# EAGLE library part WM-C1602M (library 000001)
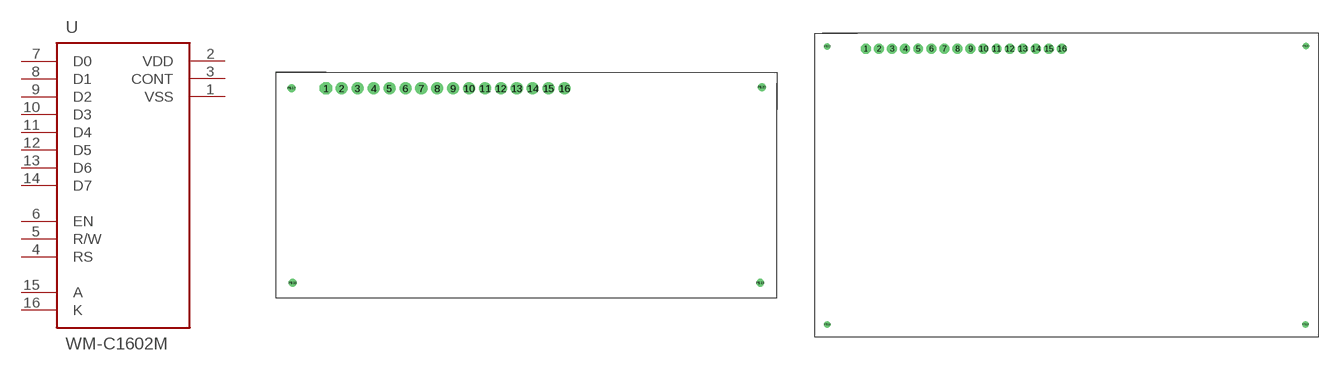
[diagram p64: symbol with the pads of WM-C1602M; footprints WM-C1602M, TM204AAB]

Designator prefix -

## WM-C1602MB  [WM-C1602M]
1  VSS
2  VDD
3  CONT
4  RS
5  R/W
6  EN
7  D0
8  D1
9  D2
10  D3
11  D4
12  D5
13  D6
14  D7
15  A
16  K

## WM-C1602MC  [TM204AAB]
Pads as for WM-C1602M

## Footprint WM-C1602M (pad centres in mm)
drill 0.5 pad 1.93 octagon: 1 0,0
drill 0.5 pad 1.93 round: 2 2.54,0; 3 5.08,0; 4 7.62,0; 5 10.16,0; 6 12.7,0; 7 15.24,0; 8 17.78,0; 9 20.32,0; 10 22.86,0; 11 25.4,0; 12 27.94,0; 13 30.48,0; 14 33.02,0; 15 35.56,0; 16 38.1,0
drill 0.5 pad 1.27 round: P$17 -5.5,0.05; P$18 -5.3,-31.05; P$19 69.35,-31.05; P$20 69.6,0.2

## Footprint TM204AAB (pad centres in mm)
drill 0.5 pad 1.93 octagon: 1 0,1.905
drill 0.5 pad 1.93 round: 2 2.54,1.905; 3 5.08,1.905; 4 7.62,1.905; 5 10.16,1.905; 6 12.7,1.905; 7 15.24,1.905; 8 17.78,1.905; 9 20.32,1.905; 10 22.86,1.905; 11 25.4,1.905; 12 27.94,1.905; 13 30.48,1.905; 14 33.02,1.905; 15 35.56,1.905; 16 38.1,1.905
drill 0.5 pad 1.27 round: P$17 -7.5,2.355; P$18 -7.5,-51.645; P$19 85.45,-51.645; P$20 85.5,2.405